# Altium footprint library SSSF040800.PcbLib: 1 footprints
Each footprint in its own frame and in the unit in brackets; x right, y up, seen from the top. Pads: shape width x height; smd on the part's side, far side on the other; paste and mask are expansions set on the pad; w line width, h text height; cw(c..) or ccw(c..) is an arc to the next point about the centre after c.
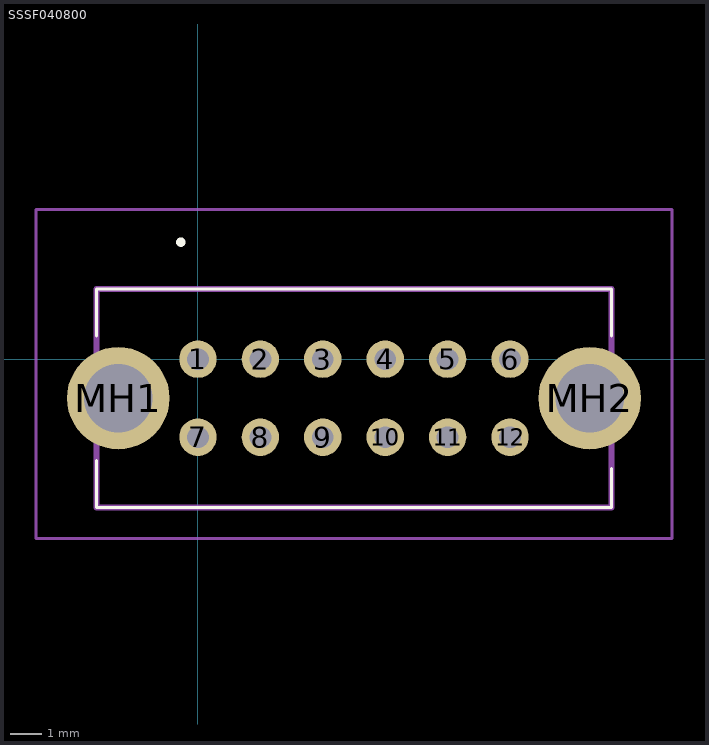
[diagram p0: the footprint, top view; thin cyan lines are the x and y axes]

## SSSF040800 [mm]
pads (14):
  round 1.2 hole 0.7: 1(0,0) 2(2,0) 3(4,0) 4(6,0) 5(8,0) 6(10,0) 7(0,-2.5) 8(2,-2.5) 9(4,-2.5) 10(6,-2.5) 11(8,-2.5) 12(10,-2.5)
  round 3.285 hole 2.19: MH1(-2.555,-1.25) MH2(12.555,-1.25)
Top Overlay:
  lines w0.1: -3.25,-4.75 -3.25,-3.25 -3.25,-4.75 ; -3.25,-4.75 13.25,-4.75 ; -3.25,-4.75 13.25,-4.75 ; -3.25,2.25 -3.25,0.75 -3.25,2.25 ; -3.25,2.25 13.25,2.25 ; -3.25,2.25 13.25,2.25 ; 13.25,-4.75 13.25,-3.5 13.25,-4.75 ; 13.25,2.25 13.25,0.75 13.25,2.25
  lines w0.2: -0.6,3.75 ccw(c-0.55,3.75) -0.5,3.75 ; -0.6,3.75 cw(c-0.55,3.75) -0.5,3.75 ; -0.6,3.75 ccw(c-0.55,3.75) -0.5,3.75
Mechanical 13:
  lines w0.2: -3.25,-4.75 -3.25,2.25 13.25,2.25 13.25,-4.75 -3.25,-4.75
Mechanical 15:
  lines w0.1: -5.197,-5.75 -5.197,4.8 15.197,4.8 15.197,-5.75 -5.197,-5.75
3D body "SSSF040800.stp": height 14.6, standoff -5, extent -3.542,-4.75 13.55,2.25